# EAGLE library part 66201221022 (library Wire_to_Board_Connectors_rev15d)
WR-MPC3 3.00mm Male Dual Row Angled Header with Plastic Pegs, 12 Pins=>Code : Con_WTB-MPC3_2_PCB_THT66201221022 <http://katalog.we-online.de/media/thumbs2/eican/thb_Con_WTB-MPC3_2_PCB_THT86220xx21022_pf2.jpg> Details see: http://katalog.we-online.de/en/em/662_0xx_210_22 Created 2014-06-06, Karrer Zheng 2014 (C) Würth Elektronik
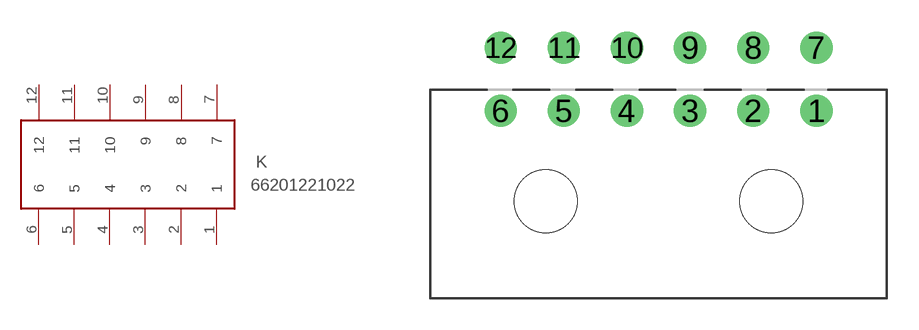
[diagram p360: symbol with the pads of 66201221022; footprint 66201221022]

Designator prefix K

## 66201221022  [66201221022]
1  1  pas
2  2  pas
3  3  pas
4  4  pas
5  5  pas
6  6  pas
7  7  hiz
8  8  pas
9  9  pas
10  10  pas
11  11  pas
12  12  pas

## Footprint 66201221022 (pad centres in mm)
WR-MPC3 3.00mm Male Dual Row Angled Header with Plastic Pegs, 12 Pins
drill 1.02: 1 7.5,4.3; 2 4.5,4.3; 3 1.5,4.3; 4 -1.5,4.3; 5 -4.5,4.3; 6 -7.5,4.3; 7 7.5,7.3; 8 4.5,7.3; 9 1.5,7.3; 10 -1.5,7.3; 11 -4.5,7.3; 12 -7.5,7.3
hole 3 at 5.35,0
hole 3 at -5.35,0